# EAGLE library part NC7SZ157 (library Switch_P4)
TinyLogic UHS 2-Input Non-Inverting Multiplexer
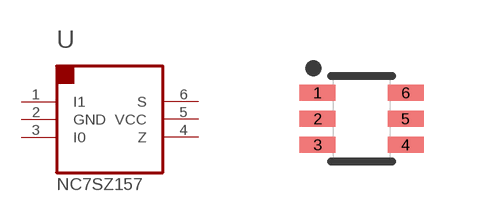
[diagram p4: symbol with the pads of SC-70-6; footprint SC-70-6]

Designator prefix U

## NC7SZ157P6X  [SC-70-6]
1  I1  pas
2  GND  pwr
3  I0  pas
4  Z  pas
5  VCC  pwr
6  S  pas

## Footprint SC-70-6 (pad centres in mm)
SC-70-6 6-pin Plastic Small outline
smd 0.9 x 0.4: 1 -1.1,0.65; 2 -1.1,0; 3 -1.1,-0.65; 4 1.1,-0.65; 5 1.1,0; 6 1.1,0.65